# EAGLE library part UPD720201 (library ds_ic_peripherals)
The µPD720201 and µPD720202 are Renesas’ third generation Universal Serial Bus 3.0 host controllers, which comply with Universal Serial Bus 3.0 Specification, and Intel’s eXtensible Host Controller Interface (xHCI). These devices reduce power consumption and offer a smaller package foot-print making them ideal for designers who wish to add the USB3.0 interface to mobile computing devices such as laptops and notebook computers. The µPD720201 supports up to four USB3.0 SuperSpeed ports and the µPD720202 supports up to two USB3.0 SuperSpeed ports. The µPD720201 and µPD720202 use a PCI Express® Gen 2 system interface bus allowing system designers to easily add up to four (µPD720201) or two (µPD720202) USB3.0 SuperSpeed ports to systems containing the PCI Express bus interface. When connected to USB 3.0- compliant peripherals, the µPD720201 and µPD720202 can transfer information at clock speeds of up to 5 Gbps. The µPD720201 and µPD720202 and USB3.0 standard are fully compliant and backward compatible with the previous USB2.0 standard. The new USB3.0 standard supports data transfer speeds of up to ten times faster than those of the previous-generation USB2.0 standard, enabling quick and efficient transfers of large amounts of information.
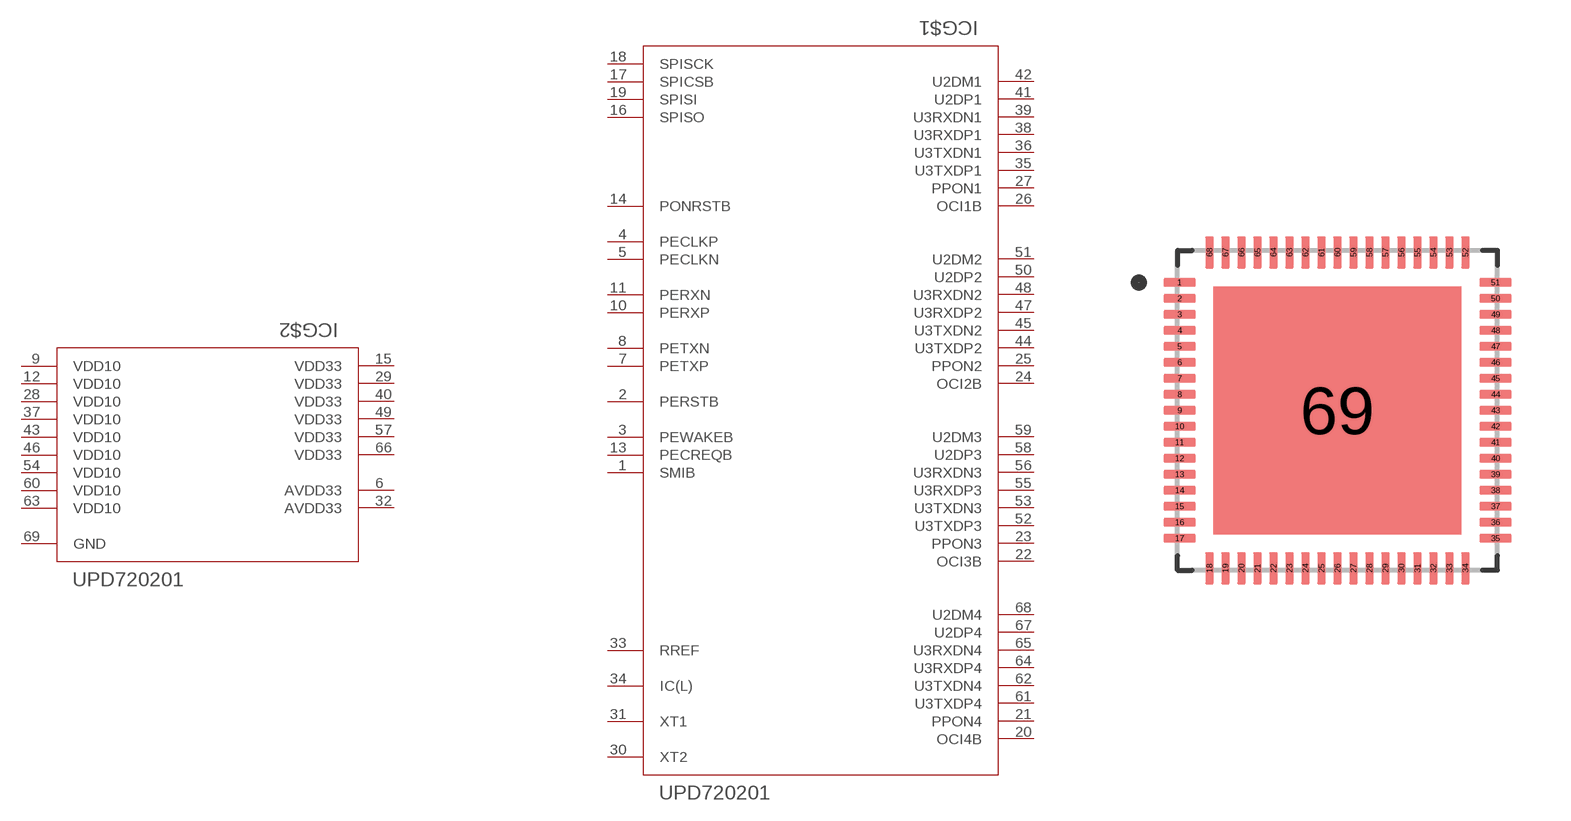
[diagram p33: symbol with the pads of QFN68-8X8; footprint QFN68-8X8]

Designator prefix IC; gates G$1=UPD720201 G$2=UPD720201_PWR

## UPD720201 (DATASHEET: https://www.renesas.com/us/en/document/dst/upd720201upd720202-datasheet?r=1260536; DESCRIPTION: QFN-68-EP(8x8) USB Converters ROHS; LCSC_PART: C355375; VALUE: UPD720201K8-701-BAC-A)  [QFN68-8X8]
1  G$1:SMIB  out
2  G$1:PERSTB  in
3  G$1:PEWAKEB  out
4  G$1:PECLKP  in
5  G$1:PECLKN  in
6  G$2:AVDD33  pwr
7  G$1:PETXP  out
8  G$1:PETXN  out
9  G$2:VDD10  pwr
10  G$1:PERXP  in
11  G$1:PERXN  in
12  G$2:VDD10  pwr
13  G$1:PECREQB  out
14  G$1:PONRSTB  in
15  G$2:VDD33  pwr
16  G$1:SPISO
17  G$1:SPICSB
18  G$1:SPISCK
19  G$1:SPISI
20  G$1:OCI4B  in
21  G$1:PPON4  out
22  G$1:OCI3B  in
23  G$1:PPON3  out
24  G$1:OCI2B  in
25  G$1:PPON2  out
26  G$1:OCI1B  in
27  G$1:PPON1  out
28  G$2:VDD10  pwr
29  G$2:VDD33  pwr
30  G$1:XT2  in
31  G$1:XT1  out
32  G$2:AVDD33  pwr
33  G$1:RREF
34  G$1:IC(L)  in
35  G$1:U3TXDP1  out
36  G$1:U3TXDN1  out
37  G$2:VDD10  pwr
38  G$1:U3RXDP1  in
39  G$1:U3RXDN1  in
40  G$2:VDD33  pwr
41  G$1:U2DP1
42  G$1:U2DM1
43  G$2:VDD10  pwr
44  G$1:U3TXDP2  out
45  G$1:U3TXDN2  out
46  G$2:VDD10  pwr
47  G$1:U3RXDP2  in
48  G$1:U3RXDN2  in
49  G$2:VDD33  pwr
50  G$1:U2DP2
51  G$1:U2DM2
52  G$1:U3TXDP3  out
53  G$1:U3TXDN3  out
54  G$2:VDD10  pwr
55  G$1:U3RXDP3  in
56  G$1:U3RXDN3  in
57  G$2:VDD33  pwr
58  G$1:U2DP3
59  G$1:U2DM3
60  G$2:VDD10  pwr
61  G$1:U3TXDP4  out
62  G$1:U3TXDN4  out
63  G$2:VDD10  pwr
64  G$1:U3RXDP4  in
65  G$1:U3RXDN4  in
66  G$2:VDD33  pwr
67  G$1:U2DP4
68  G$1:U2DM4
69  G$2:GND  pwr

## Footprint QFN68-8X8 (pad centres in mm)
smd 0.81 x 0.22: 1 -3.95,3.2; 2 -3.95,2.8; 3 -3.95,2.4; 4 -3.95,2; 5 -3.95,1.6; 6 -3.95,1.2; 7 -3.95,0.8; 8 -3.95,0.4; 9 -3.95,0; 10 -3.95,-0.4; 11 -3.95,-0.8; 12 -3.95,-1.2; 13 -3.95,-1.6; 14 -3.95,-2; 15 -3.95,-2.4; 16 -3.95,-2.8; 17 -3.95,-3.2; 35 3.95,-3.2; 36 3.95,-2.8; 37 3.95,-2.4; 38 3.95,-2; 39 3.95,-1.6; 40 3.95,-1.2; 41 3.95,-0.8; 42 3.95,-0.4; 43 3.95,0; 44 3.95,0.4; 45 3.95,0.8; 46 3.95,1.2; 47 3.95,1.6; 48 3.95,2; 49 3.95,2.4; 50 3.95,2.8; 51 3.95,3.2
smd 0.22 x 0.81: 18 -3.2,-3.95; 19 -2.8,-3.95; 20 -2.4,-3.95; 21 -2,-3.95; 22 -1.6,-3.95; 23 -1.2,-3.95; 24 -0.8,-3.95; 25 -0.4,-3.95; 26 0,-3.95; 27 0.4,-3.95; 28 0.8,-3.95; 29 1.2,-3.95; 30 1.6,-3.95; 31 2,-3.95; 32 2.4,-3.95; 33 2.8,-3.95; 34 3.2,-3.95; 52 3.2,3.95; 53 2.8,3.95; 54 2.4,3.95; 55 2,3.95; 56 1.6,3.95; 57 1.2,3.95; 58 0.8,3.95; 59 0.4,3.95; 60 0,3.95; 61 -0.4,3.95; 62 -0.8,3.95; 63 -1.2,3.95; 64 -1.6,3.95; 65 -2,3.95; 66 -2.4,3.95; 67 -2.8,3.95; 68 -3.2,3.95
smd 6.2 x 6.2: 69 0,0